# Altium footprint library HardWare.PcbLib: 173 footprints (part 10 of 11)
Each footprint in its own frame and in the unit in brackets; x right, y up, seen from the top. Pads: shape width x height; smd on the part's side, far side on the other; paste and mask are expansions set on the pad; w line width, h text height; cw(c..) or ccw(c..) is an arc to the next point about the centre after c.
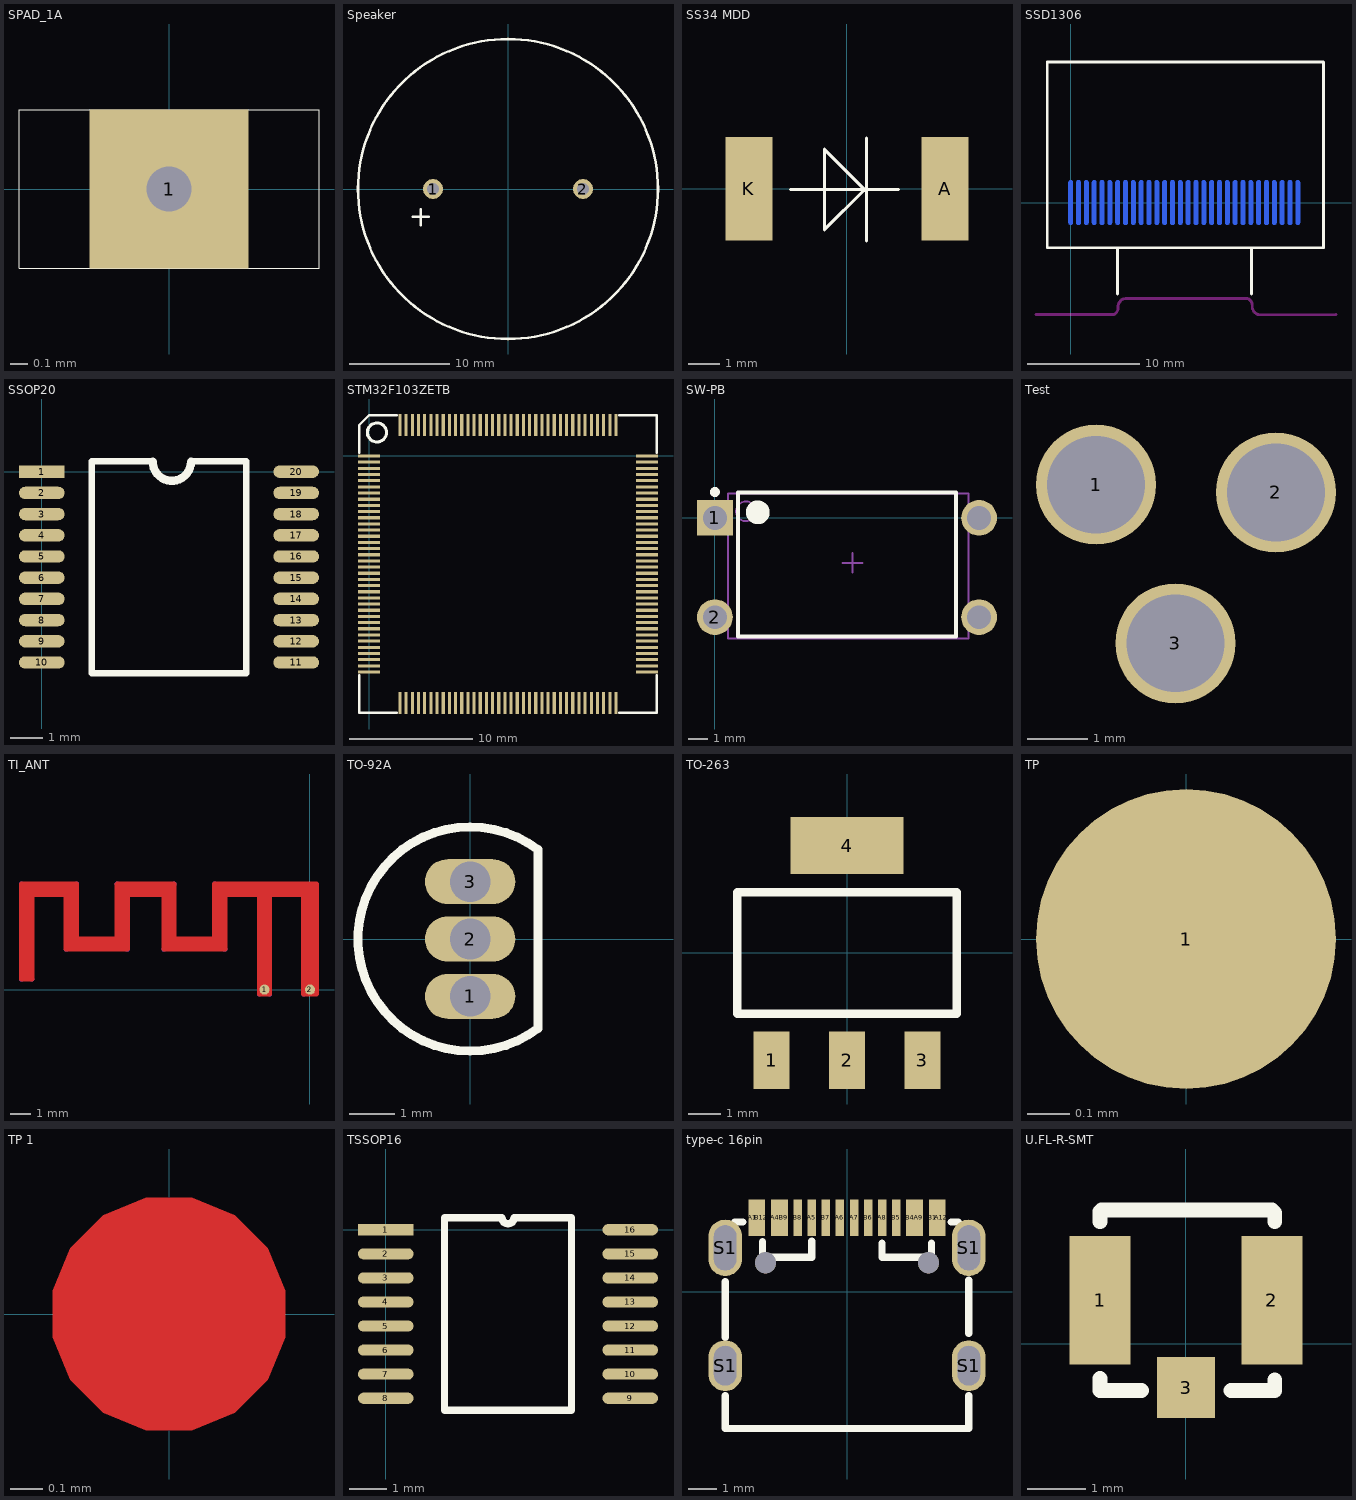
[diagram p9: the footprints below, top view; thin cyan lines are the x and y axes]

## SPAD_1A [mil]
pads (1):
  rect 35.44x35.44 / inner rect 66.92x35.44 / far side rect 66.92x35.44 hole 10: 1(0,0)
Top Overlay:
  lines w0: -33.46,-17.72 -33.46,17.72 33.46,17.72 33.46,-17.72 -33.46,-17.72

## Speaker [mm]
height 12
pads (2):
  round 2 hole 1.2: 1(-7.5,0) 2(7.5,0)
Top Overlay:
  circle w0.254: c0,0 r15
  lines w0.254: -9.525,-2.794 -7.925,-2.794 ; -8.712,-3.607 -8.712,-2.007

## SS34 MDD [mm]
pads (2):
  rect 1.49x3.27 smd: A(3.09,0) K(-3.09,0)
Top Overlay:
  lines w0.1: -1.778,-0.025 0.559,-0.025 -0.711,-1.295 -0.711,1.245 0.61,-0.076 ; 0.61,-1.651 0.61,1.6 ; 0.61,-0.025 1.626,-0.025

## SSD1306 [mm]
pads (30):
  oval 0.4x4 smd far side: 1(0,0) 2(0.7,0) 3(1.4,0) 4(2.1,0) 5(2.8,0) 6(3.5,0) 7(4.2,0) 8(4.9,0) 9(5.6,0) 10(6.3,0) 11(7,0) 12(7.7,0) 13(8.4,0) 14(9.1,0) 15(9.8,0) 16(10.5,0) 17(11.2,0) 18(11.9,0) 19(12.6,0) 20(13.3,0) 21(14,0) 22(14.7,0) 23(15.4,0) 24(16.1,0) 25(16.8,0) 26(17.5,0) 27(18.2,0) 28(18.9,0) 29(19.6,0) 30(20.3,0)
Top Overlay:
  lines w0.254: 4.175,-8.185 4.175,-4.07 ; 16.175,-8.185 16.175,-4.051 ; -2.099,-4.045 22.601,-4.045 22.601,12.555 -2.099,12.555 -2.099,-4.045
Bottom Overlay:
  lines w0.254: -0.483,0 -0.984,0 -1.029,-5.08 0.965,-7.074 3.886,-7.074 ; 16.739,-7.125 19.255,-7.125 21.3,-5.08 21.3,0 20.803,0
Keep-Out Layer:
  lines w0.254: -3.099,-10.023 3.742,-10.023 ; 3.742,-10.028 ccw(c3.742,-9.644) 4.013,-9.916 4.051,-9.878 ccw(c3.618,-9.444) 4.231,-9.444 4.231,-9.342 cw(c5.028,-9.342) 4.464,-8.779 4.485,-8.758 cw(c4.895,-9.169) 4.895,-8.588 5.008,-8.588 15.736,-8.588 cw(c15.736,-8.971) 16.007,-8.7 16.045,-8.738 cw(c15.612,-9.172) 16.225,-9.172 16.225,-9.274 ccw(c17.022,-9.274) 16.458,-9.837 16.479,-9.858 ccw(c16.889,-9.447) 16.889,-10.028 17.002,-10.028 ; 16.946,-10.028 23.713,-10.023

## SSOP20 [mm]
pads (20):
  rect 1.4x0.38 smd: 1(0,0)
  oval 1.4x0.38 smd: 2(0,-0.65) 3(0,-1.3) 4(0,-1.95) 5(0,-2.6) 6(0,-3.25) 7(0,-3.9) 8(0,-4.55) 9(0,-5.2) 10(0,-5.85) 11(7.8,-5.85) 12(7.8,-5.2) 13(7.8,-4.55) 14(7.8,-3.9) 15(7.8,-3.25) 16(7.8,-2.6) 17(7.8,-1.95) 18(7.8,-1.3) 19(7.8,-0.65) 20(7.8,0)
Top Overlay:
  lines w0.2: 3.404,0.325 1.535,0.325 1.535,-6.175 6.265,-6.175 6.265,0.325 4.562,0.325
  lines w0.254: 3.403,0.305 ccw(c3.988,0.305) 4.573,0.305

## STM32F103ZETB [mm]
pads (144):
  rect 1.8x0.254 smd: 1(-0.009,0.001) 2(-0.009,-0.499) 3(-0.009,-0.999) 4(-0.009,-1.499) 5(-0.009,-1.999) 6(-0.009,-2.499) 7(-0.009,-2.999) 8(-0.009,-3.499) 9(-0.009,-3.999) 10(-0.009,-4.499) 11(-0.009,-4.999) 12(-0.009,-5.499) 13(-0.009,-5.999) 14(-0.009,-6.499) 15(-0.009,-6.999) 16(-0.009,-7.499) 17(-0.009,-7.999) 18(-0.009,-8.499) 19(-0.009,-8.999) 20(-0.009,-9.499) 21(-0.009,-9.999) 22(-0.009,-10.499) 23(-0.009,-10.999) 24(-0.009,-11.499) 25(-0.009,-11.999) 26(-0.009,-12.499) 27(-0.009,-12.999) 28(-0.009,-13.499) 29(-0.009,-13.999) 30(-0.009,-14.499) 31(-0.009,-14.999) 32(-0.009,-15.499) 33(-0.009,-15.999) 34(-0.009,-16.499) 35(-0.009,-16.999) 36(-0.009,-17.499) 73(22.491,-17.499) 74(22.491,-16.999) 75(22.491,-16.499) 76(22.491,-15.999) 77(22.491,-15.499) 78(22.491,-14.999) 79(22.491,-14.499) 80(22.491,-13.999) 81(22.491,-13.499) 82(22.491,-12.999) 83(22.491,-12.499) 84(22.491,-11.999) 85(22.491,-11.499) 86(22.491,-10.999) 87(22.491,-10.499) 88(22.491,-9.999) 89(22.491,-9.499) 90(22.491,-8.999) 91(22.491,-8.499) 92(22.491,-7.999) 93(22.491,-7.499) 94(22.491,-6.999) 95(22.491,-6.499) 96(22.491,-5.999) 97(22.491,-5.499) 98(22.491,-4.999) 99(22.491,-4.499) 100(22.491,-3.999) 101(22.491,-3.499) 102(22.491,-2.999) 103(22.491,-2.499) 104(22.491,-1.999) 105(22.491,-1.499) 106(22.491,-0.999) 107(22.491,-0.499) 108(22.491,0.001)
  rect 0.254x1.8 smd: 37(2.491,-19.999) 38(2.991,-19.999) 39(3.491,-19.999) 40(3.991,-19.999) 41(4.491,-19.999) 42(4.991,-19.999) 43(5.491,-19.999) 44(5.991,-19.999) 45(6.491,-19.999) 46(6.991,-19.999) 47(7.491,-19.999) 48(7.991,-19.999) 49(8.491,-19.999) 50(8.991,-19.999) 51(9.491,-19.999) 52(9.991,-19.999) 53(10.491,-19.999) 54(10.991,-19.999) 55(11.491,-19.999) 56(11.991,-19.999) 57(12.491,-19.999) 58(12.991,-19.999) 59(13.491,-19.999) 60(13.991,-19.999) 61(14.491,-19.999) 62(14.991,-19.999) 63(15.491,-19.999) 64(15.991,-19.999) 65(16.491,-19.999) 66(16.991,-19.999) 67(17.491,-19.999) 68(17.991,-19.999) 69(18.491,-19.999) 70(18.991,-19.999) 71(19.491,-19.999) 72(19.991,-19.999) 109(19.991,2.501) 110(19.491,2.501) 111(18.991,2.501) 112(18.491,2.501) 113(17.991,2.501) 114(17.491,2.501) 115(16.991,2.501) 116(16.491,2.501) 117(15.991,2.501) 118(15.491,2.501) 119(14.991,2.501) 120(14.491,2.501) 121(13.991,2.501) 122(13.491,2.501) 123(12.991,2.501) 124(12.491,2.501) 125(11.991,2.501) 126(11.491,2.501) 127(10.991,2.501) 128(10.491,2.501) 129(9.991,2.501) 130(9.491,2.501) 131(8.991,2.501) 132(8.491,2.501) 133(7.991,2.501) 134(7.491,2.501) 135(6.991,2.501) 136(6.491,2.501) 137(5.991,2.501) 138(5.491,2.501) 139(4.991,2.501) 140(4.491,2.501) 141(3.991,2.501) 142(3.491,2.501) 143(2.991,2.501) 144(2.491,2.501)
Top Overlay:
  circle w0.254: c0.624,1.905 r0.773
  lines w0.2: -0.809,-17.749 -0.809,-20.799 2.241,-20.799 ; -0.809,0.251 -0.809,2.501 -0.009,3.301 2.241,3.301 ; 20.241,-20.799 23.291,-20.799 23.291,-17.749 ; 20.241,3.301 23.291,3.301 23.291,0.251

## SW-PB [mm]
height 6
pads (4):
  rect 1.8x1.8 hole 1.2: 1(0,0)
  round 1.8 hole 1.2: 2(0,-5) ""(13.3,-5) ""(13.3,0)
Top Overlay:
  circle w0.6: c2.16,0.28 r0.3
  circle w0.25: c0,1.3 r0.125
  lines w0.2: 1.16,-5.969 12.141,-5.969 12.141,1.28 4.445,1.28 1.16,1.28 1.16,-5.969
Mechanical 13:
  circle w0.1: c1.56,0.33 r0.5
  lines w0.1: 0.66,-6.071 12.776,-6.071 12.776,1.23 0.66,1.23 0.66,-6.071
Mechanical 15:
  lines w0.1: 6.434,-2.261 7.434,-2.261 ; 6.934,-2.761 6.934,-1.761
3D body: height 5.6, standoff 0, extent 0.66,-6.045 12.751,1.23

## Test [mm]
pads (3):
  round 2 hole 1.63: 1(-1267.028,-1265.758) 2(-1264.031,-1265.885) 3(-1265.707,-1268.4)

## TI_ANT [mil]
pads (42):
  round 10 on Mech1: 1(-558.39,20.49) 1(-558.39,204.47) 1(-538.7,20.49) 1(-538.7,184.79) 1(-471.77,78.49) 1(-471.77,184.79) 1(-452.09,98.17) 1(-452.09,204.47) 1(-373.35,98.17) 1(-373.35,204.47) 1(-353.66,78.49) 1(-353.66,184.79) 1(-282.8,78.49) 1(-282.8,184.79) 1(-263.11,98.17) 1(-263.11,204.47) 1(-184.37,98.17) 1(-184.37,204.47) 1(-164.69,78.49) 1(-164.69,184.79) 1(-97.76,-8.13) 1(-97.76,184.79) 1(-78.07,-8.13) 1(-78.07,184.79) 1(-12.19,-8.13) 1(-12.19,194.74) 1(12.48,194.74) 1(12.48,184.79)
  round 19.69 smd: 1(-88,0.09) 2(0.03,0.09)
  round 0 on Mech1: 1(-87.87,-0.11) 1(-87.87,-0.11) 1(-87.87,-0.11) 1(-87.87,-0.11) 1(-87.87,-0.11) 1(-87.87,-0.11) 1(0.16,-0.11) 1(0.16,-0.11) 1(0.16,-0.11) 1(0.16,-0.11) 1(0.16,-0.11) 1(0.16,-0.11)
Top Layer:
  region: 10,186 10,202 -182,202 -182,96 -266,96 -266,200 -371,200 -371,96 -456,96 -456,200 -555,200 -555,23 -543,23 -541,187 -469,187 -469,82 -357,82 -357,186 -281,186 -281,82 -168,82 -167,186 -96,186 -96,-4 -80,-4 -80,186
  region: 10,190 10,-3 -7.32,-2.93 -7.32,189.94
  lines w10: -558.39,20.49 -558.39,204.47 -452.09,204.47 -452.09,98.17 -373.35,98.17 -373.35,204.47 -263.11,204.47 -263.11,98.17 -184.37,98.17 -184.37,204.47 12.48,204.47 12.48,184.79 -78.07,184.79 -78.07,-8.13 -97.76,-8.13 -97.76,184.79 -164.69,184.79 -164.69,78.49 -282.8,78.49 -282.8,184.79 -353.66,184.79 -353.66,78.49 -471.77,78.49 -471.77,184.79 -538.7,184.79 -538.7,20.49 -558.39,20.49 ; -12.19,-8.13 12.48,-8.13 12.48,194.74 -12.19,194.74 -12.19,-8.13
Mechanical 1:
  text "ANT" at 40,-1 h28

## TO-92A [mm] "TO, Flat Index; 3 In-Line, Axial Leads; Body Dia. 4.5mm; Leads 0.51 x 0.48 mm (max)"
height 6.86
pads (3):
  oval 2x1 hole 0.9: 1(0,-1.27) 2(0,0) 3(0,1.27)
Top Overlay:
  lines w0.2: 1.5,-1.98 cw(c0,0) 1.5,1.98 1.5,-1.98

## TO-263 [mm]
height 3
pads (4):
  rect 1.1x1.75 smd: 1(-2.3,-3.275) 2(0,-3.275) 3(2.3,-3.275)
  rect 3.45x1.75 smd: 4(0,3.275)
Top Overlay:
  lines w0.254: -3.35,-1.85 3.35,-1.85 3.35,1.85 -3.35,1.85 -3.35,-1.85
3D body "SOT-223_MP04A.STEP": height 1.7, standoff 0, extent -3.25,-3.48 3.25,3.48

## TP [mm]
pads (1):
  round 0.7 smd: 1(0,0)

## TP 1 [mm]
Top Layer:
  region: 0,-0.356 -0.071,-0.356 -0.201,-0.301 -0.301,-0.201 -0.356,-0.071 -0.356,0 -0.356,0.071 -0.301,0.201 -0.201,0.301 -0.071,0.356 0,0.356 0.071,0.356 0.201,0.301 0.301,0.201 0.356,0.071 0.356,0 0.356,-0.071 0.301,-0.201 0.201,-0.301 0.071,-0.356
Top Solder:
  region: 0,-0.458 -0.091,-0.458 -0.259,-0.388 -0.388,-0.259 -0.458,-0.091 -0.458,0 -0.458,0.091 -0.388,0.259 -0.259,0.388 -0.091,0.458 0,0.458 0.091,0.458 0.259,0.388 0.388,0.259 0.458,0.091 0.458,0 0.458,-0.091 0.388,-0.259 0.259,-0.388 0.091,-0.458

## TSSOP16 [mm] "MAX3232EUE"
height 0.95
pads (16):
  rect 1.5x0.3 smd: 1(0,0)
  oval 1.5x0.3 smd: 2(0,-0.65) 3(0,-1.3) 4(0,-1.95) 5(0,-2.6) 6(0,-3.25) 7(0,-3.9) 8(0,-4.55) 9(6.6,-4.55) 10(6.6,-3.9) 11(6.6,-3.25) 12(6.6,-2.6) 13(6.6,-1.95) 14(6.6,-1.3) 15(6.6,-0.65) 16(6.6,0)
Top Overlay:
  lines w0.2: 1.585,-4.875 1.585,0.325 3.137,0.325 ccw(c3.3,0.325) 3.462,0.325 5.015,0.325 5.015,-4.875 1.585,-4.875
  text "." at 1.092,0.864 h1.52

## type-c 16pin [mm] "https://detail.1688.com/offer/564875961516.html?spm=a26352.13672862.offerlist.11.52bd1e62PUNFDG"
pads (22):
  rect 0.3x1.3 smd: A1(-3.35,2.623) A4(-2.55,2.623) A5(-1.25,2.623) A6(-0.25,2.623) A7(0.25,2.623) A8(1.25,2.624) A9(2.55,2.623) A12(3.35,2.623) B1(3.05,2.623) B4(2.25,2.623) B5(1.75,2.623) B6(0.75,2.623) B7(-0.75,2.623) B8(-1.75,2.624) B9(-2.25,2.623) B12(-3.05,2.623)
  oval 1.2x1.8 hole 0.8 slot 1.4 at 90 deg: S1(-4.32,-2.624) S1(4.32,-2.624)
  oval 1.2x2 hole 0.8 slot 1.6 at 90 deg: S1(-4.32,1.556) S1(4.32,1.556)
  round 0.75 hole 0.75 unplated: ""(-2.89,1.026) ""(2.89,1.026)
Top Overlay:
  lines w0.254: -4.32,-3.683 -4.32,-4.857 4.32,-4.857 4.32,-3.683 ; -4.32,-1.628 -4.32,0.356 ; -3.981,2.471 -3.683,2.471 ; -3,1.778 -3,1.221 -1.25,1.221 -1.25,1.803 ; 1.247,1.727 1.247,1.223 2.997,1.223 2.997,1.727 ; 3.683,2.471 3.955,2.471 ; 4.318,-1.473 4.32,0.406

## U.FL-R-SMT [mm]
pads (3):
  rect 1.05x2.2 smd: 1(-1.475,0.75) 2(1.475,0.75)
  rect 1x1.05 smd: 3(0,-0.75)
Top Overlay:
  lines w0.254: -1.475,-0.596 -1.475,-0.8 -0.764,-0.8 ; -1.475,2.096 -1.475,2.274 -1.449,2.3 1.475,2.3 1.525,2.25 1.525,2.096 ; 0.775,-0.8 1.525,-0.8 1.525,-0.622